# Altium schematic symbol library jlcpcb_2024_10_resistors_basic.schlib: 182 symbols (part 1 of 4)
Pins are listed as number, name and electrical type; pins without a type are passive.

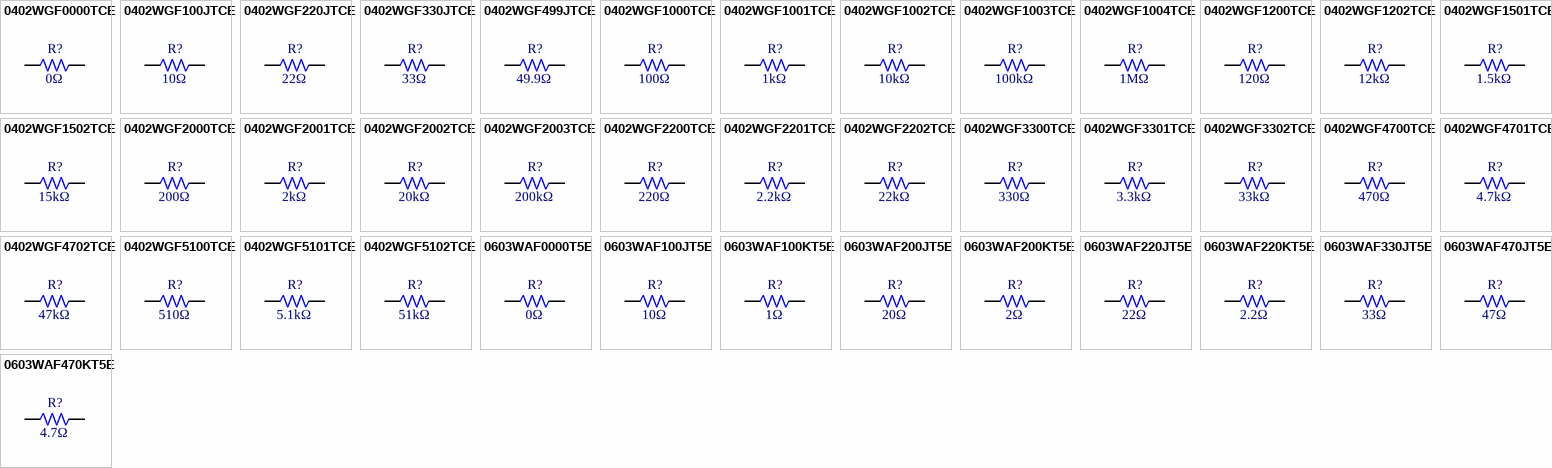
[diagram p0: symbols 0402WGF0000TCE to 0603WAF470KT5E]

## 0402WGF0000TCE
designator R?  Resistance: 0Ω  (hidden comment: *)
Resistor, 0Ω, ±1%, 62.5mW, 50V, ±800ppm/℃, -55℃~+155℃, SMD 0402; Manufacturer: Uniroyal; Manufacturer Part Number: 0402WGF0000TCE; Supplier 1: LCSC; Supplier Part Number 1: C17168; JLCPCB Part Number: C17168; Power Rating: 62.5mW; Category: Resistors; Package Size: 0402; JLCPCB Basic Part: Yes; Tolerance: ±1%; Voltage Rating: 50V; Temperature Coefficient: ±800ppm/℃; Temperature Rating: -55℃~+155℃; ComponentLink1Description: Datasheet; ComponentLink1URL: https://wmsc.lcsc.com/wmsc/upload/file/pdf/v2/lcsc/2206010216_UNI-ROYAL-Uniroyal-Elec-0402WGF0000TCE_C17168.pdf; ComponentLink2Description: JLCPCB Part URL; ComponentLink2URL: https://jlcpcb.com/partdetail/C17168
footprint RES-0402 (0402 (1005M) Resistor)
pins: 1, 2
1 alternate drawing of the same symbol

## 0402WGF100JTCE
designator R?  Resistance: 10Ω  (hidden comment: *)
Resistor, 10Ω, ±1%, 62.5mW, 50V, ±200ppm/℃, -55℃~+155℃, SMD 0402; Manufacturer: Uniroyal; Manufacturer Part Number: 0402WGF100JTCE; Supplier 1: LCSC; Supplier Part Number 1: C25077; JLCPCB Part Number: C25077; Power Rating: 62.5mW; Category: Resistors; Package Size: 0402; JLCPCB Basic Part: Yes; Tolerance: ±1%; Voltage Rating: 50V; Temperature Coefficient: ±200ppm/℃; Temperature Rating: -55℃~+155℃; ComponentLink1Description: Datasheet; ComponentLink1URL: https://wmsc.lcsc.com/wmsc/upload/file/pdf/v2/lcsc/2205311900_UNI-ROYAL-Uniroyal-Elec-0402WGF100JTCE_C25077.pdf; ComponentLink2Description: JLCPCB Part URL; ComponentLink2URL: https://jlcpcb.com/partdetail/C25077
footprint RES-0402 (0402 (1005M) Resistor)
pins: 1, 2
1 alternate drawing of the same symbol

## 0402WGF220JTCE
designator R?  Resistance: 22Ω  (hidden comment: *)
Resistor, 22Ω, ±1%, 62.5mW, 50V, ±200ppm/℃, -55℃~+155℃, SMD 0402; Manufacturer: Uniroyal; Manufacturer Part Number: 0402WGF220JTCE; Supplier 1: LCSC; Supplier Part Number 1: C25092; JLCPCB Part Number: C25092; Power Rating: 62.5mW; Category: Resistors; Package Size: 0402; JLCPCB Basic Part: Yes; Tolerance: ±1%; Voltage Rating: 50V; Temperature Coefficient: ±200ppm/℃; Temperature Rating: -55℃~+155℃; ComponentLink1Description: Datasheet; ComponentLink1URL: https://wmsc.lcsc.com/wmsc/upload/file/pdf/v2/lcsc/2205311900_UNI-ROYAL-Uniroyal-Elec-0402WGF220JTCE_C25092.pdf; ComponentLink2Description: JLCPCB Part URL; ComponentLink2URL: https://jlcpcb.com/partdetail/C25092
footprint RES-0402 (0402 (1005M) Resistor)
pins: 1, 2
1 alternate drawing of the same symbol

## 0402WGF330JTCE
designator R?  Resistance: 33Ω  (hidden comment: *)
Resistor, 33Ω, ±1%, 62.5mW, 50V, ±100ppm/℃, -55℃~+155℃, SMD 0402; Manufacturer: Uniroyal; Manufacturer Part Number: 0402WGF330JTCE; Supplier 1: LCSC; Supplier Part Number 1: C25105; JLCPCB Part Number: C25105; Power Rating: 62.5mW; Category: Resistors; Package Size: 0402; JLCPCB Basic Part: Yes; Tolerance: ±1%; Voltage Rating: 50V; Temperature Coefficient: ±100ppm/℃; Temperature Rating: -55℃~+155℃; ComponentLink1Description: Datasheet; ComponentLink1URL: https://wmsc.lcsc.com/wmsc/upload/file/pdf/v2/lcsc/2205311900_UNI-ROYAL-Uniroyal-Elec-0402WGF330JTCE_C25105.pdf; ComponentLink2Description: JLCPCB Part URL; ComponentLink2URL: https://jlcpcb.com/partdetail/C25105
footprint RES-0402 (0402 (1005M) Resistor)
pins: 1, 2
1 alternate drawing of the same symbol

## 0402WGF499JTCE
designator R?  Resistance: 49.9Ω  (hidden comment: *)
Resistor, 49.9Ω, ±1%, 62.5mW, 50V, ±100ppm/℃, -55℃~+155℃, SMD 0402; Manufacturer: Uniroyal; Manufacturer Part Number: 0402WGF499JTCE; Supplier 1: LCSC; Supplier Part Number 1: C25120; JLCPCB Part Number: C25120; Power Rating: 62.5mW; Category: Resistors; Package Size: 0402; JLCPCB Basic Part: Yes; Tolerance: ±1%; Voltage Rating: 50V; Temperature Coefficient: ±100ppm/℃; Temperature Rating: -55℃~+155℃; ComponentLink1Description: Datasheet; ComponentLink1URL: https://wmsc.lcsc.com/wmsc/upload/file/pdf/v2/lcsc/2205311900_UNI-ROYAL-Uniroyal-Elec-0402WGF499JTCE_C25120.pdf; ComponentLink2Description: JLCPCB Part URL; ComponentLink2URL: https://jlcpcb.com/partdetail/C25120
footprint RES-0402 (0402 (1005M) Resistor)
pins: 1, 2
1 alternate drawing of the same symbol

## 0402WGF1000TCE
designator R?  Resistance: 100Ω  (hidden comment: *)
Resistor, 100Ω, ±1%, 62.5mW, 50V, ±200ppm/℃, -55℃~+155℃, SMD 0402; Manufacturer: Uniroyal; Manufacturer Part Number: 0402WGF1000TCE; Supplier 1: LCSC; Supplier Part Number 1: C25076; JLCPCB Part Number: C25076; Power Rating: 62.5mW; Category: Resistors; Package Size: 0402; JLCPCB Basic Part: Yes; Tolerance: ±1%; Voltage Rating: 50V; Temperature Coefficient: ±200ppm/℃; Temperature Rating: -55℃~+155℃; ComponentLink1Description: Datasheet; ComponentLink1URL: https://wmsc.lcsc.com/wmsc/upload/file/pdf/v2/lcsc/2205311900_UNI-ROYAL-Uniroyal-Elec-0402WGF1000TCE_C25076.pdf; ComponentLink2Description: JLCPCB Part URL; ComponentLink2URL: https://jlcpcb.com/partdetail/C25076
footprint RES-0402 (0402 (1005M) Resistor)
pins: 1, 2
1 alternate drawing of the same symbol

## 0402WGF1001TCE
designator R?  Resistance: 1kΩ  (hidden comment: *)
Resistor, 1kΩ, ±1%, 62.5mW, 50V, ±100ppm/℃, -55℃~+155℃, SMD 0402; Manufacturer: Uniroyal; Manufacturer Part Number: 0402WGF1001TCE; Supplier 1: LCSC; Supplier Part Number 1: C11702; JLCPCB Part Number: C11702; Power Rating: 62.5mW; Category: Resistors; Package Size: 0402; JLCPCB Basic Part: Yes; Tolerance: ±1%; Voltage Rating: 50V; Temperature Coefficient: ±100ppm/℃; Temperature Rating: -55℃~+155℃; ComponentLink1Description: Datasheet; ComponentLink1URL: https://wmsc.lcsc.com/wmsc/upload/file/pdf/v2/lcsc/2206010216_UNI-ROYAL-Uniroyal-Elec-0402WGF1001TCE_C11702.pdf; ComponentLink2Description: JLCPCB Part URL; ComponentLink2URL: https://jlcpcb.com/partdetail/C11702
footprint RES-0402 (0402 (1005M) Resistor)
pins: 1, 2
1 alternate drawing of the same symbol

## 0402WGF1002TCE
designator R?  Resistance: 10kΩ  (hidden comment: *)
Resistor, 10kΩ, ±1%, 62.5mW, 50V, ±100ppm/℃, -55℃~+155℃, SMD 0402; Manufacturer: Uniroyal; Manufacturer Part Number: 0402WGF1002TCE; Supplier 1: LCSC; Supplier Part Number 1: C25744; JLCPCB Part Number: C25744; Power Rating: 62.5mW; Category: Resistors; Package Size: 0402; JLCPCB Basic Part: Yes; Tolerance: ±1%; Voltage Rating: 50V; Temperature Coefficient: ±100ppm/℃; Temperature Rating: -55℃~+155℃; ComponentLink1Description: Datasheet; ComponentLink1URL: https://wmsc.lcsc.com/wmsc/upload/file/pdf/v2/lcsc/2206010100_UNI-ROYAL-Uniroyal-Elec-0402WGF1002TCE_C25744.pdf; ComponentLink2Description: JLCPCB Part URL; ComponentLink2URL: https://jlcpcb.com/partdetail/C25744
footprint RES-0402 (0402 (1005M) Resistor)
pins: 1, 2
1 alternate drawing of the same symbol

## 0402WGF1003TCE
designator R?  Resistance: 100kΩ  (hidden comment: *)
Resistor, 100kΩ, ±1%, 62.5mW, 50V, ±100ppm/℃, -55℃~+155℃, SMD 0402; Manufacturer: Uniroyal; Manufacturer Part Number: 0402WGF1003TCE; Supplier 1: LCSC; Supplier Part Number 1: C25741; JLCPCB Part Number: C25741; Power Rating: 62.5mW; Category: Resistors; Package Size: 0402; JLCPCB Basic Part: Yes; Tolerance: ±1%; Voltage Rating: 50V; Temperature Coefficient: ±100ppm/℃; Temperature Rating: -55℃~+155℃; ComponentLink1Description: Datasheet; ComponentLink1URL: https://wmsc.lcsc.com/wmsc/upload/file/pdf/v2/lcsc/2206010100_UNI-ROYAL-Uniroyal-Elec-0402WGF1003TCE_C25741.pdf; ComponentLink2Description: JLCPCB Part URL; ComponentLink2URL: https://jlcpcb.com/partdetail/C25741
footprint RES-0402 (0402 (1005M) Resistor)
pins: 1, 2
1 alternate drawing of the same symbol

## 0402WGF1004TCE
designator R?  Resistance: 1MΩ  (hidden comment: *)
Resistor, 1MΩ, ±1%, 62.5mW, 50V, ±100ppm/℃, -55℃~+155℃, SMD 0402; Manufacturer: Uniroyal; Manufacturer Part Number: 0402WGF1004TCE; Supplier 1: LCSC; Supplier Part Number 1: C26083; JLCPCB Part Number: C26083; Power Rating: 62.5mW; Category: Resistors; Package Size: 0402; JLCPCB Basic Part: Yes; Tolerance: ±1%; Voltage Rating: 50V; Temperature Coefficient: ±100ppm/℃; Temperature Rating: -55℃~+155℃; ComponentLink1Description: Datasheet; ComponentLink1URL: https://wmsc.lcsc.com/wmsc/upload/file/pdf/v2/lcsc/2206010030_UNI-ROYAL-Uniroyal-Elec-0402WGF1004TCE_C26083.pdf; ComponentLink2Description: JLCPCB Part URL; ComponentLink2URL: https://jlcpcb.com/partdetail/C26083
footprint RES-0402 (0402 (1005M) Resistor)
pins: 1, 2
1 alternate drawing of the same symbol

## 0402WGF1200TCE
designator R?  Resistance: 120Ω  (hidden comment: *)
Resistor, 120Ω, ±1%, 62.5mW, 50V, ±100ppm/℃, -55℃~+155℃, SMD 0402; Manufacturer: Uniroyal; Manufacturer Part Number: 0402WGF1200TCE; Supplier 1: LCSC; Supplier Part Number 1: C25079; JLCPCB Part Number: C25079; Power Rating: 62.5mW; Category: Resistors; Package Size: 0402; JLCPCB Basic Part: Yes; Tolerance: ±1%; Voltage Rating: 50V; Temperature Coefficient: ±100ppm/℃; Temperature Rating: -55℃~+155℃; ComponentLink1Description: Datasheet; ComponentLink1URL: https://wmsc.lcsc.com/wmsc/upload/file/pdf/v2/lcsc/2205311900_UNI-ROYAL-Uniroyal-Elec-0402WGF1200TCE_C25079.pdf; ComponentLink2Description: JLCPCB Part URL; ComponentLink2URL: https://jlcpcb.com/partdetail/C25079
footprint RES-0402 (0402 (1005M) Resistor)
pins: 1, 2
1 alternate drawing of the same symbol

## 0402WGF1202TCE
designator R?  Resistance: 12kΩ  (hidden comment: *)
Resistor, 12kΩ, ±1%, 62.5mW, 50V, ±100ppm/℃, -55℃~+155℃, SMD 0402; Manufacturer: Uniroyal; Manufacturer Part Number: 0402WGF1202TCE; Supplier 1: LCSC; Supplier Part Number 1: C25752; JLCPCB Part Number: C25752; Power Rating: 62.5mW; Category: Resistors; Package Size: 0402; JLCPCB Basic Part: Yes; Tolerance: ±1%; Voltage Rating: 50V; Temperature Coefficient: ±100ppm/℃; Temperature Rating: -55℃~+155℃; ComponentLink1Description: Datasheet; ComponentLink1URL: https://wmsc.lcsc.com/wmsc/upload/file/pdf/v2/lcsc/2206010100_UNI-ROYAL-Uniroyal-Elec-0402WGF1202TCE_C25752.pdf; ComponentLink2Description: JLCPCB Part URL; ComponentLink2URL: https://jlcpcb.com/partdetail/C25752
footprint RES-0402 (0402 (1005M) Resistor)
pins: 1, 2
1 alternate drawing of the same symbol

## 0402WGF1501TCE
designator R?  Resistance: 1.5kΩ  (hidden comment: *)
Resistor, 1.5kΩ, ±1%, 62.5mW, 50V, ±100ppm/℃, -55℃~+155℃, SMD 0402; Manufacturer: Uniroyal; Manufacturer Part Number: 0402WGF1501TCE; Supplier 1: LCSC; Supplier Part Number 1: C25867; JLCPCB Part Number: C25867; Power Rating: 62.5mW; Category: Resistors; Package Size: 0402; JLCPCB Basic Part: Yes; Tolerance: ±1%; Voltage Rating: 50V; Temperature Coefficient: ±100ppm/℃; Temperature Rating: -55℃~+155℃; ComponentLink1Description: Datasheet; ComponentLink1URL: https://wmsc.lcsc.com/wmsc/upload/file/pdf/v2/lcsc/2206010045_UNI-ROYAL-Uniroyal-Elec-0402WGF1501TCE_C25867.pdf; ComponentLink2Description: JLCPCB Part URL; ComponentLink2URL: https://jlcpcb.com/partdetail/C25867
footprint RES-0402 (0402 (1005M) Resistor)
pins: 1, 2
1 alternate drawing of the same symbol

## 0402WGF1502TCE
designator R?  Resistance: 15kΩ  (hidden comment: *)
Resistor, 15kΩ, ±1%, 62.5mW, 50V, ±100ppm/℃, -55℃~+155℃, SMD 0402; Manufacturer: Uniroyal; Manufacturer Part Number: 0402WGF1502TCE; Supplier 1: LCSC; Supplier Part Number 1: C25756; JLCPCB Part Number: C25756; Power Rating: 62.5mW; Category: Resistors; Package Size: 0402; JLCPCB Basic Part: Yes; Tolerance: ±1%; Voltage Rating: 50V; Temperature Coefficient: ±100ppm/℃; Temperature Rating: -55℃~+155℃; ComponentLink1Description: Datasheet; ComponentLink1URL: https://wmsc.lcsc.com/wmsc/upload/file/pdf/v2/lcsc/2206010100_UNI-ROYAL-Uniroyal-Elec-0402WGF1502TCE_C25756.pdf; ComponentLink2Description: JLCPCB Part URL; ComponentLink2URL: https://jlcpcb.com/partdetail/C25756
footprint RES-0402 (0402 (1005M) Resistor)
pins: 1, 2
1 alternate drawing of the same symbol

## 0402WGF2000TCE
designator R?  Resistance: 200Ω  (hidden comment: *)
Resistor, 200Ω, ±1%, 62.5mW, 50V, ±100ppm/℃, -55℃~+155℃, SMD 0402; Manufacturer: Uniroyal; Manufacturer Part Number: 0402WGF2000TCE; Supplier 1: LCSC; Supplier Part Number 1: C25087; JLCPCB Part Number: C25087; Power Rating: 62.5mW; Category: Resistors; Package Size: 0402; JLCPCB Basic Part: Yes; Tolerance: ±1%; Voltage Rating: 50V; Temperature Coefficient: ±100ppm/℃; Temperature Rating: -55℃~+155℃; ComponentLink1Description: Datasheet; ComponentLink1URL: https://wmsc.lcsc.com/wmsc/upload/file/pdf/v2/lcsc/2205311900_UNI-ROYAL-Uniroyal-Elec-0402WGF2000TCE_C25087.pdf; ComponentLink2Description: JLCPCB Part URL; ComponentLink2URL: https://jlcpcb.com/partdetail/C25087
footprint RES-0402 (0402 (1005M) Resistor)
pins: 1, 2
1 alternate drawing of the same symbol

## 0402WGF2001TCE
designator R?  Resistance: 2kΩ  (hidden comment: *)
Resistor, 2kΩ, ±1%, 62.5mW, 50V, ±100ppm/℃, -55℃~+155℃, SMD 0402; Manufacturer: Uniroyal; Manufacturer Part Number: 0402WGF2001TCE; Supplier 1: LCSC; Supplier Part Number 1: C4109; JLCPCB Part Number: C4109; Power Rating: 62.5mW; Category: Resistors; Package Size: 0402; JLCPCB Basic Part: Yes; Tolerance: ±1%; Voltage Rating: 50V; Temperature Coefficient: ±100ppm/℃; Temperature Rating: -55℃~+155℃; ComponentLink1Description: Datasheet; ComponentLink1URL: https://wmsc.lcsc.com/wmsc/upload/file/pdf/v2/lcsc/2206010230_UNI-ROYAL-Uniroyal-Elec-0402WGF2001TCE_C4109.pdf; ComponentLink2Description: JLCPCB Part URL; ComponentLink2URL: https://jlcpcb.com/partdetail/C4109
footprint RES-0402 (0402 (1005M) Resistor)
pins: 1, 2
1 alternate drawing of the same symbol

## 0402WGF2002TCE
designator R?  Resistance: 20kΩ  (hidden comment: *)
Resistor, 20kΩ, ±1%, 62.5mW, 50V, ±100ppm/℃, -55℃~+155℃, SMD 0402; Manufacturer: Uniroyal; Manufacturer Part Number: 0402WGF2002TCE; Supplier 1: LCSC; Supplier Part Number 1: C25765; JLCPCB Part Number: C25765; Power Rating: 62.5mW; Category: Resistors; Package Size: 0402; JLCPCB Basic Part: Yes; Tolerance: ±1%; Voltage Rating: 50V; Temperature Coefficient: ±100ppm/℃; Temperature Rating: -55℃~+155℃; ComponentLink1Description: Datasheet; ComponentLink1URL: https://wmsc.lcsc.com/wmsc/upload/file/pdf/v2/lcsc/2206010100_UNI-ROYAL-Uniroyal-Elec-0402WGF2002TCE_C25765.pdf; ComponentLink2Description: JLCPCB Part URL; ComponentLink2URL: https://jlcpcb.com/partdetail/C25765
footprint RES-0402 (0402 (1005M) Resistor)
pins: 1, 2
1 alternate drawing of the same symbol

## 0402WGF2003TCE
designator R?  Resistance: 200kΩ  (hidden comment: *)
Resistor, 200kΩ, ±1%, 62.5mW, 50V, ±100ppm/℃, -55℃~+155℃, SMD 0402; Manufacturer: Uniroyal; Manufacturer Part Number: 0402WGF2003TCE; Supplier 1: LCSC; Supplier Part Number 1: C25764; JLCPCB Part Number: C25764; Power Rating: 62.5mW; Category: Resistors; Package Size: 0402; JLCPCB Basic Part: Yes; Tolerance: ±1%; Voltage Rating: 50V; Temperature Coefficient: ±100ppm/℃; Temperature Rating: -55℃~+155℃; ComponentLink1Description: Datasheet; ComponentLink1URL: https://wmsc.lcsc.com/wmsc/upload/file/pdf/v2/lcsc/2206010100_UNI-ROYAL-Uniroyal-Elec-0402WGF2003TCE_C25764.pdf; ComponentLink2Description: JLCPCB Part URL; ComponentLink2URL: https://jlcpcb.com/partdetail/C25764
footprint RES-0402 (0402 (1005M) Resistor)
pins: 1, 2
1 alternate drawing of the same symbol

## 0402WGF2200TCE
designator R?  Resistance: 220Ω  (hidden comment: *)
Resistor, 220Ω, ±1%, 62.5mW, 50V, ±100ppm/℃, -55℃~+155℃, SMD 0402; Manufacturer: Uniroyal; Manufacturer Part Number: 0402WGF2200TCE; Supplier 1: LCSC; Supplier Part Number 1: C25091; JLCPCB Part Number: C25091; Power Rating: 62.5mW; Category: Resistors; Package Size: 0402; JLCPCB Basic Part: Yes; Tolerance: ±1%; Voltage Rating: 50V; Temperature Coefficient: ±100ppm/℃; Temperature Rating: -55℃~+155℃; ComponentLink1Description: Datasheet; ComponentLink1URL: https://wmsc.lcsc.com/wmsc/upload/file/pdf/v2/lcsc/2205311900_UNI-ROYAL-Uniroyal-Elec-0402WGF2200TCE_C25091.pdf; ComponentLink2Description: JLCPCB Part URL; ComponentLink2URL: https://jlcpcb.com/partdetail/C25091
footprint RES-0402 (0402 (1005M) Resistor)
pins: 1, 2
1 alternate drawing of the same symbol

## 0402WGF2201TCE
designator R?  Resistance: 2.2kΩ  (hidden comment: *)
Resistor, 2.2kΩ, ±1%, 62.5mW, 50V, ±100ppm/℃, -55℃~+155℃, SMD 0402; Manufacturer: Uniroyal; Manufacturer Part Number: 0402WGF2201TCE; Supplier 1: LCSC; Supplier Part Number 1: C25879; JLCPCB Part Number: C25879; Power Rating: 62.5mW; Category: Resistors; Package Size: 0402; JLCPCB Basic Part: Yes; Tolerance: ±1%; Voltage Rating: 50V; Temperature Coefficient: ±100ppm/℃; Temperature Rating: -55℃~+155℃; ComponentLink1Description: Datasheet; ComponentLink1URL: https://wmsc.lcsc.com/wmsc/upload/file/pdf/v2/lcsc/2206010045_UNI-ROYAL-Uniroyal-Elec-0402WGF2201TCE_C25879.pdf; ComponentLink2Description: JLCPCB Part URL; ComponentLink2URL: https://jlcpcb.com/partdetail/C25879
footprint RES-0402 (0402 (1005M) Resistor)
pins: 1, 2
1 alternate drawing of the same symbol

## 0402WGF2202TCE
designator R?  Resistance: 22kΩ  (hidden comment: *)
Resistor, 22kΩ, ±1%, 62.5mW, 50V, ±100ppm/℃, -55℃~+155℃, SMD 0402; Manufacturer: Uniroyal; Manufacturer Part Number: 0402WGF2202TCE; Supplier 1: LCSC; Supplier Part Number 1: C25768; JLCPCB Part Number: C25768; Power Rating: 62.5mW; Category: Resistors; Package Size: 0402; JLCPCB Basic Part: Yes; Tolerance: ±1%; Voltage Rating: 50V; Temperature Coefficient: ±100ppm/℃; Temperature Rating: -55℃~+155℃; ComponentLink1Description: Datasheet; ComponentLink1URL: https://wmsc.lcsc.com/wmsc/upload/file/pdf/v2/lcsc/2206010100_UNI-ROYAL-Uniroyal-Elec-0402WGF2202TCE_C25768.pdf; ComponentLink2Description: JLCPCB Part URL; ComponentLink2URL: https://jlcpcb.com/partdetail/C25768
footprint RES-0402 (0402 (1005M) Resistor)
pins: 1, 2
1 alternate drawing of the same symbol

## 0402WGF3300TCE
designator R?  Resistance: 330Ω  (hidden comment: *)
Resistor, 330Ω, ±1%, 62.5mW, 50V, ±100ppm/℃, -55℃~+155℃, SMD 0402; Manufacturer: Uniroyal; Manufacturer Part Number: 0402WGF3300TCE; Supplier 1: LCSC; Supplier Part Number 1: C25104; JLCPCB Part Number: C25104; Power Rating: 62.5mW; Category: Resistors; Package Size: 0402; JLCPCB Basic Part: Yes; Tolerance: ±1%; Voltage Rating: 50V; Temperature Coefficient: ±100ppm/℃; Temperature Rating: -55℃~+155℃; ComponentLink1Description: Datasheet; ComponentLink1URL: https://wmsc.lcsc.com/wmsc/upload/file/pdf/v2/lcsc/2205311900_UNI-ROYAL-Uniroyal-Elec-0402WGF3300TCE_C25104.pdf; ComponentLink2Description: JLCPCB Part URL; ComponentLink2URL: https://jlcpcb.com/partdetail/C25104
footprint RES-0402 (0402 (1005M) Resistor)
pins: 1, 2
1 alternate drawing of the same symbol

## 0402WGF3301TCE
designator R?  Resistance: 3.3kΩ  (hidden comment: *)
Resistor, 3.3kΩ, ±1%, 62.5mW, 50V, ±100ppm/℃, -55℃~+155℃, SMD 0402; Manufacturer: Uniroyal; Manufacturer Part Number: 0402WGF3301TCE; Supplier 1: LCSC; Supplier Part Number 1: C25890; JLCPCB Part Number: C25890; Power Rating: 62.5mW; Category: Resistors; Package Size: 0402; JLCPCB Basic Part: Yes; Tolerance: ±1%; Voltage Rating: 50V; Temperature Coefficient: ±100ppm/℃; Temperature Rating: -55℃~+155℃; ComponentLink1Description: Datasheet; ComponentLink1URL: https://wmsc.lcsc.com/wmsc/upload/file/pdf/v2/lcsc/2206010045_UNI-ROYAL-Uniroyal-Elec-0402WGF3301TCE_C25890.pdf; ComponentLink2Description: JLCPCB Part URL; ComponentLink2URL: https://jlcpcb.com/partdetail/C25890
footprint RES-0402 (0402 (1005M) Resistor)
pins: 1, 2
1 alternate drawing of the same symbol

## 0402WGF3302TCE
designator R?  Resistance: 33kΩ  (hidden comment: *)
Resistor, 33kΩ, ±1%, 62.5mW, 50V, ±100ppm/℃, -55℃~+155℃, SMD 0402; Manufacturer: Uniroyal; Manufacturer Part Number: 0402WGF3302TCE; Supplier 1: LCSC; Supplier Part Number 1: C25779; JLCPCB Part Number: C25779; Power Rating: 62.5mW; Category: Resistors; Package Size: 0402; JLCPCB Basic Part: Yes; Tolerance: ±1%; Voltage Rating: 50V; Temperature Coefficient: ±100ppm/℃; Temperature Rating: -55℃~+155℃; ComponentLink1Description: Datasheet; ComponentLink1URL: https://wmsc.lcsc.com/wmsc/upload/file/pdf/v2/lcsc/2206010100_UNI-ROYAL-Uniroyal-Elec-0402WGF3302TCE_C25779.pdf; ComponentLink2Description: JLCPCB Part URL; ComponentLink2URL: https://jlcpcb.com/partdetail/C25779
footprint RES-0402 (0402 (1005M) Resistor)
pins: 1, 2
1 alternate drawing of the same symbol

## 0402WGF4700TCE
designator R?  Resistance: 470Ω  (hidden comment: *)
Resistor, 470Ω, ±1%, 62.5mW, 50V, ±100ppm/℃, -55℃~+155℃, SMD 0402; Manufacturer: Uniroyal; Manufacturer Part Number: 0402WGF4700TCE; Supplier 1: LCSC; Supplier Part Number 1: C25117; JLCPCB Part Number: C25117; Power Rating: 62.5mW; Category: Resistors; Package Size: 0402; JLCPCB Basic Part: Yes; Tolerance: ±1%; Voltage Rating: 50V; Temperature Coefficient: ±100ppm/℃; Temperature Rating: -55℃~+155℃; ComponentLink1Description: Datasheet; ComponentLink1URL: https://wmsc.lcsc.com/wmsc/upload/file/pdf/v2/lcsc/2205311900_UNI-ROYAL-Uniroyal-Elec-0402WGF4700TCE_C25117.pdf; ComponentLink2Description: JLCPCB Part URL; ComponentLink2URL: https://jlcpcb.com/partdetail/C25117
footprint RES-0402 (0402 (1005M) Resistor)
pins: 1, 2
1 alternate drawing of the same symbol

## 0402WGF4701TCE
designator R?  Resistance: 4.7kΩ  (hidden comment: *)
Resistor, 4.7kΩ, ±1%, 62.5mW, 50V, ±100ppm/℃, -55℃~+155℃, SMD 0402; Manufacturer: Uniroyal; Manufacturer Part Number: 0402WGF4701TCE; Supplier 1: LCSC; Supplier Part Number 1: C25900; JLCPCB Part Number: C25900; Power Rating: 62.5mW; Category: Resistors; Package Size: 0402; JLCPCB Basic Part: Yes; Tolerance: ±1%; Voltage Rating: 50V; Temperature Coefficient: ±100ppm/℃; Temperature Rating: -55℃~+155℃; ComponentLink1Description: Datasheet; ComponentLink1URL: https://wmsc.lcsc.com/wmsc/upload/file/pdf/v2/lcsc/2206010045_UNI-ROYAL-Uniroyal-Elec-0402WGF4701TCE_C25900.pdf; ComponentLink2Description: JLCPCB Part URL; ComponentLink2URL: https://jlcpcb.com/partdetail/C25900
footprint RES-0402 (0402 (1005M) Resistor)
pins: 1, 2
1 alternate drawing of the same symbol

## 0402WGF4702TCE
designator R?  Resistance: 47kΩ  (hidden comment: *)
Resistor, 47kΩ, ±1%, 62.5mW, 50V, ±100ppm/℃, -55℃~+155℃, SMD 0402; Manufacturer: Uniroyal; Manufacturer Part Number: 0402WGF4702TCE; Supplier 1: LCSC; Supplier Part Number 1: C25792; JLCPCB Part Number: C25792; Power Rating: 62.5mW; Category: Resistors; Package Size: 0402; JLCPCB Basic Part: Yes; Tolerance: ±1%; Voltage Rating: 50V; Temperature Coefficient: ±100ppm/℃; Temperature Rating: -55℃~+155℃; ComponentLink1Description: Datasheet; ComponentLink1URL: https://wmsc.lcsc.com/wmsc/upload/file/pdf/v2/lcsc/2206010100_UNI-ROYAL-Uniroyal-Elec-0402WGF4702TCE_C25792.pdf; ComponentLink2Description: JLCPCB Part URL; ComponentLink2URL: https://jlcpcb.com/partdetail/C25792
footprint RES-0402 (0402 (1005M) Resistor)
pins: 1, 2
1 alternate drawing of the same symbol

## 0402WGF5100TCE
designator R?  Resistance: 510Ω  (hidden comment: *)
Resistor, 510Ω, ±1%, 62.5mW, 50V, ±100ppm/℃, -55℃~+155℃, SMD 0402; Manufacturer: Uniroyal; Manufacturer Part Number: 0402WGF5100TCE; Supplier 1: LCSC; Supplier Part Number 1: C25123; JLCPCB Part Number: C25123; Power Rating: 62.5mW; Category: Resistors; Package Size: 0402; JLCPCB Basic Part: Yes; Tolerance: ±1%; Voltage Rating: 50V; Temperature Coefficient: ±100ppm/℃; Temperature Rating: -55℃~+155℃; ComponentLink1Description: Datasheet; ComponentLink1URL: https://wmsc.lcsc.com/wmsc/upload/file/pdf/v2/lcsc/2205311900_UNI-ROYAL-Uniroyal-Elec-0402WGF5100TCE_C25123.pdf; ComponentLink2Description: JLCPCB Part URL; ComponentLink2URL: https://jlcpcb.com/partdetail/C25123
footprint RES-0402 (0402 (1005M) Resistor)
pins: 1, 2
1 alternate drawing of the same symbol

## 0402WGF5101TCE
designator R?  Resistance: 5.1kΩ  (hidden comment: *)
Resistor, 5.1kΩ, ±1%, 62.5mW, 50V, ±100ppm/℃, -55℃~+155℃, SMD 0402; Manufacturer: Uniroyal; Manufacturer Part Number: 0402WGF5101TCE; Supplier 1: LCSC; Supplier Part Number 1: C25905; JLCPCB Part Number: C25905; Power Rating: 62.5mW; Category: Resistors; Package Size: 0402; JLCPCB Basic Part: Yes; Tolerance: ±1%; Voltage Rating: 50V; Temperature Coefficient: ±100ppm/℃; Temperature Rating: -55℃~+155℃; ComponentLink1Description: Datasheet; ComponentLink1URL: https://wmsc.lcsc.com/wmsc/upload/file/pdf/v2/lcsc/2206010045_UNI-ROYAL-Uniroyal-Elec-0402WGF5101TCE_C25905.pdf; ComponentLink2Description: JLCPCB Part URL; ComponentLink2URL: https://jlcpcb.com/partdetail/C25905
footprint RES-0402 (0402 (1005M) Resistor)
pins: 1, 2
1 alternate drawing of the same symbol

## 0402WGF5102TCE
designator R?  Resistance: 51kΩ  (hidden comment: *)
Resistor, 51kΩ, ±1%, 62.5mW, 50V, ±100ppm/℃, -55℃~+155℃, SMD 0402; Manufacturer: Uniroyal; Manufacturer Part Number: 0402WGF5102TCE; Supplier 1: LCSC; Supplier Part Number 1: C25794; JLCPCB Part Number: C25794; Power Rating: 62.5mW; Category: Resistors; Package Size: 0402; JLCPCB Basic Part: Yes; Tolerance: ±1%; Voltage Rating: 50V; Temperature Coefficient: ±100ppm/℃; Temperature Rating: -55℃~+155℃; ComponentLink1Description: Datasheet; ComponentLink1URL: https://wmsc.lcsc.com/wmsc/upload/file/pdf/v2/lcsc/2206010100_UNI-ROYAL-Uniroyal-Elec-0402WGF5102TCE_C25794.pdf; ComponentLink2Description: JLCPCB Part URL; ComponentLink2URL: https://jlcpcb.com/partdetail/C25794
footprint RES-0402 (0402 (1005M) Resistor)
pins: 1, 2
1 alternate drawing of the same symbol

## 0603WAF0000T5E
designator R?  Resistance: 0Ω  (hidden comment: *)
Resistor, 0Ω, ±1%, 100mW, 75V, -55℃~+155℃, SMD 0603; Manufacturer: Uniroyal; Manufacturer Part Number: 0603WAF0000T5E; Supplier 1: LCSC; Supplier Part Number 1: C21189; JLCPCB Part Number: C21189; Power Rating: 100mW; Category: Resistors; Package Size: 0603; JLCPCB Basic Part: Yes; Tolerance: ±1%; Voltage Rating: 75V; Temperature Rating: -55℃~+155℃; ComponentLink1Description: Datasheet; ComponentLink1URL: https://wmsc.lcsc.com/wmsc/upload/file/pdf/v2/lcsc/2206010130_UNI-ROYAL-Uniroyal-Elec-0603WAF0000T5E_C21189.pdf; ComponentLink2Description: JLCPCB Part URL; ComponentLink2URL: https://jlcpcb.com/partdetail/C21189
footprint RES-0603 (0603 (1608M) Resistor)
pins: 1, 2
1 alternate drawing of the same symbol

## 0603WAF100JT5E
designator R?  Resistance: 10Ω  (hidden comment: *)
Resistor, 10Ω, ±1%, 100mW, 75V, ±400ppm/℃, -55℃~+155℃, SMD 0603; Manufacturer: Uniroyal; Manufacturer Part Number: 0603WAF100JT5E; Supplier 1: LCSC; Supplier Part Number 1: C22859; JLCPCB Part Number: C22859; Power Rating: 100mW; Category: Resistors; Package Size: 0603; JLCPCB Basic Part: Yes; Tolerance: ±1%; Voltage Rating: 75V; Temperature Coefficient: ±400ppm/℃; Temperature Rating: -55℃~+155℃; ComponentLink1Description: Datasheet; ComponentLink1URL: https://wmsc.lcsc.com/wmsc/upload/file/pdf/v2/lcsc/2206010130_UNI-ROYAL-Uniroyal-Elec-0603WAF100JT5E_C22859.pdf; ComponentLink2Description: JLCPCB Part URL; ComponentLink2URL: https://jlcpcb.com/partdetail/C22859
footprint RES-0603 (0603 (1608M) Resistor)
pins: 1, 2
1 alternate drawing of the same symbol

## 0603WAF100KT5E
designator R?  Resistance: 1Ω  (hidden comment: *)
Resistor, 1Ω, ±1%, 100mW, 75V, ±400ppm/℃, -55℃~+155℃, SMD 0603; Manufacturer: Uniroyal; Manufacturer Part Number: 0603WAF100KT5E; Supplier 1: LCSC; Supplier Part Number 1: C22936; JLCPCB Part Number: C22936; Power Rating: 100mW; Category: Resistors; Package Size: 0603; JLCPCB Basic Part: Yes; Tolerance: ±1%; Voltage Rating: 75V; Temperature Coefficient: ±400ppm/℃; Temperature Rating: -55℃~+155℃; ComponentLink1Description: Datasheet; ComponentLink1URL: https://wmsc.lcsc.com/wmsc/upload/file/pdf/v2/lcsc/2206010130_UNI-ROYAL-Uniroyal-Elec-0603WAF100KT5E_C22936.pdf; ComponentLink2Description: JLCPCB Part URL; ComponentLink2URL: https://jlcpcb.com/partdetail/C22936
footprint RES-0603 (0603 (1608M) Resistor)
pins: 1, 2
1 alternate drawing of the same symbol

## 0603WAF200JT5E
designator R?  Resistance: 20Ω  (hidden comment: *)
Resistor, 20Ω, ±1%, 100mW, 75V, ±100ppm/℃, -55℃~+155℃, SMD 0603; Manufacturer: Uniroyal; Manufacturer Part Number: 0603WAF200JT5E; Supplier 1: LCSC; Supplier Part Number 1: C22950; JLCPCB Part Number: C22950; Power Rating: 100mW; Category: Resistors; Package Size: 0603; JLCPCB Basic Part: Yes; Tolerance: ±1%; Voltage Rating: 75V; Temperature Coefficient: ±100ppm/℃; Temperature Rating: -55℃~+155℃; ComponentLink1Description: Datasheet; ComponentLink1URL: https://wmsc.lcsc.com/wmsc/upload/file/pdf/v2/lcsc/2206010130_UNI-ROYAL-Uniroyal-Elec-0603WAF200JT5E_C22950.pdf; ComponentLink2Description: JLCPCB Part URL; ComponentLink2URL: https://jlcpcb.com/partdetail/C22950
footprint RES-0603 (0603 (1608M) Resistor)
pins: 1, 2
1 alternate drawing of the same symbol

## 0603WAF200KT5E
designator R?  Resistance: 2Ω  (hidden comment: *)
Resistor, 2Ω, ±1%, 100mW, 75V, ±400ppm/℃, -55℃~+155℃, SMD 0603; Manufacturer: Uniroyal; Manufacturer Part Number: 0603WAF200KT5E; Supplier 1: LCSC; Supplier Part Number 1: C22977; JLCPCB Part Number: C22977; Power Rating: 100mW; Category: Resistors; Package Size: 0603; JLCPCB Basic Part: Yes; Tolerance: ±1%; Voltage Rating: 75V; Temperature Coefficient: ±400ppm/℃; Temperature Rating: -55℃~+155℃; ComponentLink1Description: Datasheet; ComponentLink1URL: https://wmsc.lcsc.com/wmsc/upload/file/pdf/v2/lcsc/2206010116_UNI-ROYAL-Uniroyal-Elec-0603WAF200KT5E_C22977.pdf; ComponentLink2Description: JLCPCB Part URL; ComponentLink2URL: https://jlcpcb.com/partdetail/C22977
footprint RES-0603 (0603 (1608M) Resistor)
pins: 1, 2
1 alternate drawing of the same symbol

## 0603WAF220JT5E
designator R?  Resistance: 22Ω  (hidden comment: *)
Resistor, 22Ω, ±1%, 100mW, 75V, ±100ppm/℃, -55℃~+155℃, SMD 0603; Manufacturer: Uniroyal; Manufacturer Part Number: 0603WAF220JT5E; Supplier 1: LCSC; Supplier Part Number 1: C23345; JLCPCB Part Number: C23345; Power Rating: 100mW; Category: Resistors; Package Size: 0603; JLCPCB Basic Part: Yes; Tolerance: ±1%; Voltage Rating: 75V; Temperature Coefficient: ±100ppm/℃; Temperature Rating: -55℃~+155℃; ComponentLink1Description: Datasheet; ComponentLink1URL: https://wmsc.lcsc.com/wmsc/upload/file/pdf/v2/lcsc/2206010100_UNI-ROYAL-Uniroyal-Elec-0603WAF220JT5E_C23345.pdf; ComponentLink2Description: JLCPCB Part URL; ComponentLink2URL: https://jlcpcb.com/partdetail/C23345
footprint RES-0603 (0603 (1608M) Resistor)
pins: 1, 2
1 alternate drawing of the same symbol

## 0603WAF220KT5E
designator R?  Resistance: 2.2Ω  (hidden comment: *)
Resistor, 2.2Ω, ±1%, 100mW, 75V, ±400ppm/℃, -55℃~+155℃, SMD 0603; Manufacturer: Uniroyal; Manufacturer Part Number: 0603WAF220KT5E; Supplier 1: LCSC; Supplier Part Number 1: C22939; JLCPCB Part Number: C22939; Power Rating: 100mW; Category: Resistors; Package Size: 0603; JLCPCB Basic Part: Yes; Tolerance: ±1%; Voltage Rating: 75V; Temperature Coefficient: ±400ppm/℃; Temperature Rating: -55℃~+155℃; ComponentLink1Description: Datasheet; ComponentLink1URL: https://wmsc.lcsc.com/wmsc/upload/file/pdf/v2/lcsc/2206010130_UNI-ROYAL-Uniroyal-Elec-0603WAF220KT5E_C22939.pdf; ComponentLink2Description: JLCPCB Part URL; ComponentLink2URL: https://jlcpcb.com/partdetail/C22939
footprint RES-0603 (0603 (1608M) Resistor)
pins: 1, 2
1 alternate drawing of the same symbol

## 0603WAF330JT5E
designator R?  Resistance: 33Ω  (hidden comment: *)
Resistor, 33Ω, ±1%, 100mW, 75V, ±100ppm/℃, -55℃~+155℃, SMD 0603; Manufacturer: Uniroyal; Manufacturer Part Number: 0603WAF330JT5E; Supplier 1: LCSC; Supplier Part Number 1: C23140; JLCPCB Part Number: C23140; Power Rating: 100mW; Category: Resistors; Package Size: 0603; JLCPCB Basic Part: Yes; Tolerance: ±1%; Voltage Rating: 75V; Temperature Coefficient: ±100ppm/℃; Temperature Rating: -55℃~+155℃; ComponentLink1Description: Datasheet; ComponentLink1URL: https://wmsc.lcsc.com/wmsc/upload/file/pdf/v2/lcsc/2206010116_UNI-ROYAL-Uniroyal-Elec-0603WAF330JT5E_C23140.pdf; ComponentLink2Description: JLCPCB Part URL; ComponentLink2URL: https://jlcpcb.com/partdetail/C23140
footprint RES-0603 (0603 (1608M) Resistor)
pins: 1, 2
1 alternate drawing of the same symbol

## 0603WAF470JT5E
designator R?  Resistance: 47Ω  (hidden comment: *)
Resistor, 47Ω, ±1%, 100mW, 75V, ±100ppm/℃, -55℃~+155℃, SMD 0603; Manufacturer: Uniroyal; Manufacturer Part Number: 0603WAF470JT5E; Supplier 1: LCSC; Supplier Part Number 1: C23182; JLCPCB Part Number: C23182; Power Rating: 100mW; Category: Resistors; Package Size: 0603; JLCPCB Basic Part: Yes; Tolerance: ±1%; Voltage Rating: 75V; Temperature Coefficient: ±100ppm/℃; Temperature Rating: -55℃~+155℃; ComponentLink1Description: Datasheet; ComponentLink1URL: https://wmsc.lcsc.com/wmsc/upload/file/pdf/v2/lcsc/2206010116_UNI-ROYAL-Uniroyal-Elec-0603WAF470JT5E_C23182.pdf; ComponentLink2Description: JLCPCB Part URL; ComponentLink2URL: https://jlcpcb.com/partdetail/C23182
footprint RES-0603 (0603 (1608M) Resistor)
pins: 1, 2
1 alternate drawing of the same symbol

## 0603WAF470KT5E
designator R?  Resistance: 4.7Ω  (hidden comment: *)
Resistor, 4.7Ω, ±1%, 100mW, 75V, ±400ppm/℃, -55℃~+155℃, SMD 0603; Manufacturer: Uniroyal; Manufacturer Part Number: 0603WAF470KT5E; Supplier 1: LCSC; Supplier Part Number 1: C23164; JLCPCB Part Number: C23164; Power Rating: 100mW; Category: Resistors; Package Size: 0603; JLCPCB Basic Part: Yes; Tolerance: ±1%; Voltage Rating: 75V; Temperature Coefficient: ±400ppm/℃; Temperature Rating: -55℃~+155℃; ComponentLink1Description: Datasheet; ComponentLink1URL: https://wmsc.lcsc.com/wmsc/upload/file/pdf/v2/lcsc/2206010116_UNI-ROYAL-Uniroyal-Elec-0603WAF470KT5E_C23164.pdf; ComponentLink2Description: JLCPCB Part URL; ComponentLink2URL: https://jlcpcb.com/partdetail/C23164
footprint RES-0603 (0603 (1608M) Resistor)
pins: 1, 2
1 alternate drawing of the same symbol

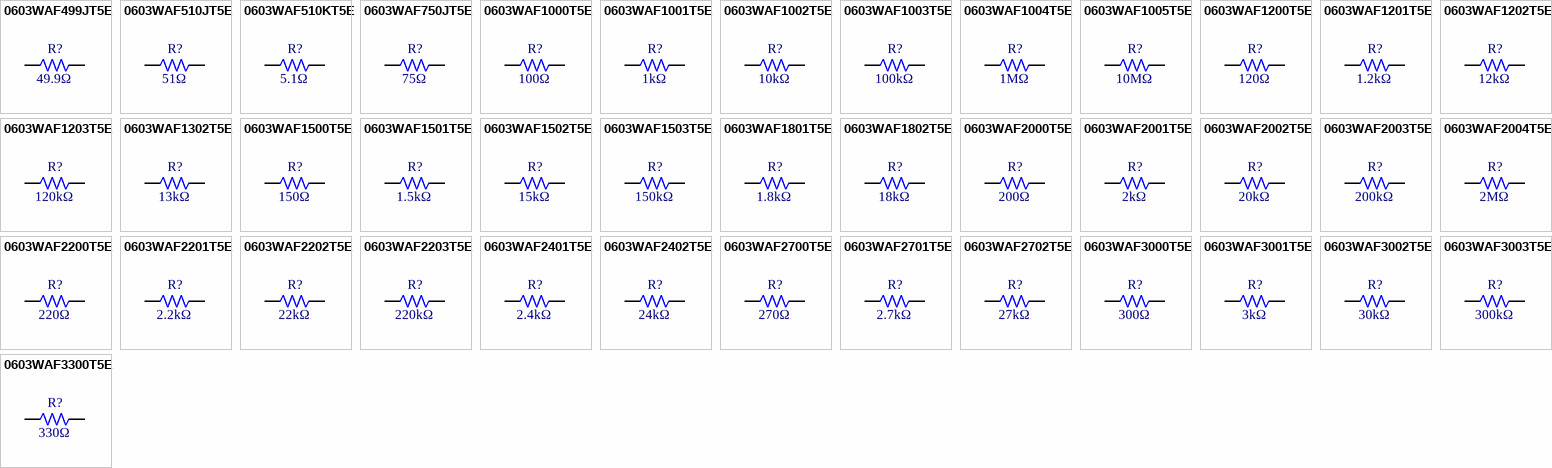
[diagram p1: symbols 0603WAF499JT5E to 0603WAF3300T5E]

## 0603WAF499JT5E
designator R?  Resistance: 49.9Ω  (hidden comment: *)
Resistor, 49.9Ω, ±1%, 100mW, 75V, ±100ppm/℃, -55℃~+155℃, SMD 0603; Manufacturer: Uniroyal; Manufacturer Part Number: 0603WAF499JT5E; Supplier 1: LCSC; Supplier Part Number 1: C23185; JLCPCB Part Number: C23185; Power Rating: 100mW; Category: Resistors; Package Size: 0603; JLCPCB Basic Part: Yes; Tolerance: ±1%; Voltage Rating: 75V; Temperature Coefficient: ±100ppm/℃; Temperature Rating: -55℃~+155℃; ComponentLink1Description: Datasheet; ComponentLink1URL: https://wmsc.lcsc.com/wmsc/upload/file/pdf/v2/lcsc/2206010116_UNI-ROYAL-Uniroyal-Elec-0603WAF499JT5E_C23185.pdf; ComponentLink2Description: JLCPCB Part URL; ComponentLink2URL: https://jlcpcb.com/partdetail/C23185
footprint RES-0603 (0603 (1608M) Resistor)
pins: 1, 2
1 alternate drawing of the same symbol

## 0603WAF510JT5E
designator R?  Resistance: 51Ω  (hidden comment: *)
Resistor, 51Ω, ±1%, 100mW, 75V, ±100ppm/℃, -55℃~+155℃, SMD 0603; Manufacturer: Uniroyal; Manufacturer Part Number: 0603WAF510JT5E; Supplier 1: LCSC; Supplier Part Number 1: C23197; JLCPCB Part Number: C23197; Power Rating: 100mW; Category: Resistors; Package Size: 0603; JLCPCB Basic Part: Yes; Tolerance: ±1%; Voltage Rating: 75V; Temperature Coefficient: ±100ppm/℃; Temperature Rating: -55℃~+155℃; ComponentLink1Description: Datasheet; ComponentLink1URL: https://wmsc.lcsc.com/wmsc/upload/file/pdf/v2/lcsc/2206010116_UNI-ROYAL-Uniroyal-Elec-0603WAF510JT5E_C23197.pdf; ComponentLink2Description: JLCPCB Part URL; ComponentLink2URL: https://jlcpcb.com/partdetail/C23197
footprint RES-0603 (0603 (1608M) Resistor)
pins: 1, 2
1 alternate drawing of the same symbol

## 0603WAF510KT5E
designator R?  Resistance: 5.1Ω  (hidden comment: *)
Resistor, 5.1Ω, ±1%, 100mW, 75V, ±200ppm/℃, -55℃~+155℃, SMD 0603; Manufacturer: Uniroyal; Manufacturer Part Number: 0603WAF510KT5E; Supplier 1: LCSC; Supplier Part Number 1: C25197; JLCPCB Part Number: C25197; Power Rating: 100mW; Category: Resistors; Package Size: 0603; JLCPCB Basic Part: Yes; Tolerance: ±1%; Voltage Rating: 75V; Temperature Coefficient: ±200ppm/℃; Temperature Rating: -55℃~+155℃; ComponentLink1Description: Datasheet; ComponentLink1URL: https://wmsc.lcsc.com/wmsc/upload/file/pdf/v2/lcsc/2205311845_UNI-ROYAL-Uniroyal-Elec-0603WAF510KT5E_C25197.pdf; ComponentLink2Description: JLCPCB Part URL; ComponentLink2URL: https://jlcpcb.com/partdetail/C25197
footprint RES-0603 (0603 (1608M) Resistor)
pins: 1, 2
1 alternate drawing of the same symbol

## 0603WAF750JT5E
designator R?  Resistance: 75Ω  (hidden comment: *)
Resistor, 75Ω, ±1%, 100mW, 75V, ±200ppm/℃, -55℃~+155℃, SMD 0603; Manufacturer: Uniroyal; Manufacturer Part Number: 0603WAF750JT5E; Supplier 1: LCSC; Supplier Part Number 1: C4275; JLCPCB Part Number: C4275; Power Rating: 100mW; Category: Resistors; Package Size: 0603; JLCPCB Basic Part: Yes; Tolerance: ±1%; Voltage Rating: 75V; Temperature Coefficient: ±200ppm/℃; Temperature Rating: -55℃~+155℃; ComponentLink1Description: Datasheet; ComponentLink1URL: https://wmsc.lcsc.com/wmsc/upload/file/pdf/v2/lcsc/2206010216_UNI-ROYAL-Uniroyal-Elec-0603WAF750JT5E_C4275.pdf; ComponentLink2Description: JLCPCB Part URL; ComponentLink2URL: https://jlcpcb.com/partdetail/C4275
footprint RES-0603 (0603 (1608M) Resistor)
pins: 1, 2
1 alternate drawing of the same symbol

## 0603WAF1000T5E
designator R?  Resistance: 100Ω  (hidden comment: *)
Resistor, 100Ω, ±1%, 100mW, 75V, ±200ppm/℃, -55℃~+155℃, SMD 0603; Manufacturer: Uniroyal; Manufacturer Part Number: 0603WAF1000T5E; Supplier 1: LCSC; Supplier Part Number 1: C22775; JLCPCB Part Number: C22775; Power Rating: 100mW; Category: Resistors; Package Size: 0603; JLCPCB Basic Part: Yes; Tolerance: ±1%; Voltage Rating: 75V; Temperature Coefficient: ±200ppm/℃; Temperature Rating: -55℃~+155℃; ComponentLink1Description: Datasheet; ComponentLink1URL: https://wmsc.lcsc.com/wmsc/upload/file/pdf/v2/lcsc/2206010130_UNI-ROYAL-Uniroyal-Elec-0603WAF1000T5E_C22775.pdf; ComponentLink2Description: JLCPCB Part URL; ComponentLink2URL: https://jlcpcb.com/partdetail/C22775
footprint RES-0603 (0603 (1608M) Resistor)
pins: 1, 2
1 alternate drawing of the same symbol

## 0603WAF1001T5E
designator R?  Resistance: 1kΩ  (hidden comment: *)
Resistor, 1kΩ, ±1%, 100mW, 75V, ±100ppm/℃, -55℃~+155℃, SMD 0603; Manufacturer: Uniroyal; Manufacturer Part Number: 0603WAF1001T5E; Supplier 1: LCSC; Supplier Part Number 1: C21190; JLCPCB Part Number: C21190; Power Rating: 100mW; Category: Resistors; Package Size: 0603; JLCPCB Basic Part: Yes; Tolerance: ±1%; Voltage Rating: 75V; Temperature Coefficient: ±100ppm/℃; Temperature Rating: -55℃~+155℃; ComponentLink1Description: Datasheet; ComponentLink1URL: https://wmsc.lcsc.com/wmsc/upload/file/pdf/v2/lcsc/2206010130_UNI-ROYAL-Uniroyal-Elec-0603WAF1001T5E_C21190.pdf; ComponentLink2Description: JLCPCB Part URL; ComponentLink2URL: https://jlcpcb.com/partdetail/C21190
footprint RES-0603 (0603 (1608M) Resistor)
pins: 1, 2
1 alternate drawing of the same symbol

## 0603WAF1002T5E
designator R?  Resistance: 10kΩ  (hidden comment: *)
Resistor, 10kΩ, ±1%, 100mW, 75V, ±100ppm/℃, -55℃~+155℃, SMD 0603; Manufacturer: Uniroyal; Manufacturer Part Number: 0603WAF1002T5E; Supplier 1: LCSC; Supplier Part Number 1: C25804; JLCPCB Part Number: C25804; Power Rating: 100mW; Category: Resistors; Package Size: 0603; JLCPCB Basic Part: Yes; Tolerance: ±1%; Voltage Rating: 75V; Temperature Coefficient: ±100ppm/℃; Temperature Rating: -55℃~+155℃; ComponentLink1Description: Datasheet; ComponentLink1URL: https://wmsc.lcsc.com/wmsc/upload/file/pdf/v2/lcsc/2206010045_UNI-ROYAL-Uniroyal-Elec-0603WAF1002T5E_C25804.pdf; ComponentLink2Description: JLCPCB Part URL; ComponentLink2URL: https://jlcpcb.com/partdetail/C25804
footprint RES-0603 (0603 (1608M) Resistor)
pins: 1, 2
1 alternate drawing of the same symbol

## 0603WAF1003T5E
designator R?  Resistance: 100kΩ  (hidden comment: *)
Resistor, 100kΩ, ±1%, 100mW, 75V, ±100ppm/℃, -55℃~+155℃, SMD 0603; Manufacturer: Uniroyal; Manufacturer Part Number: 0603WAF1003T5E; Supplier 1: LCSC; Supplier Part Number 1: C25803; JLCPCB Part Number: C25803; Power Rating: 100mW; Category: Resistors; Package Size: 0603; JLCPCB Basic Part: Yes; Tolerance: ±1%; Voltage Rating: 75V; Temperature Coefficient: ±100ppm/℃; Temperature Rating: -55℃~+155℃; ComponentLink1Description: Datasheet; ComponentLink1URL: https://wmsc.lcsc.com/wmsc/upload/file/pdf/v2/lcsc/2206010045_UNI-ROYAL-Uniroyal-Elec-0603WAF1003T5E_C25803.pdf; ComponentLink2Description: JLCPCB Part URL; ComponentLink2URL: https://jlcpcb.com/partdetail/C25803
footprint RES-0603 (0603 (1608M) Resistor)
pins: 1, 2
1 alternate drawing of the same symbol

## 0603WAF1004T5E
designator R?  Resistance: 1MΩ  (hidden comment: *)
Resistor, 1MΩ, ±1%, 100mW, 75V, ±100ppm/℃, -55℃~+155℃, SMD 0603; Manufacturer: Uniroyal; Manufacturer Part Number: 0603WAF1004T5E; Supplier 1: LCSC; Supplier Part Number 1: C22935; JLCPCB Part Number: C22935; Power Rating: 100mW; Category: Resistors; Package Size: 0603; JLCPCB Basic Part: Yes; Tolerance: ±1%; Voltage Rating: 75V; Temperature Coefficient: ±100ppm/℃; Temperature Rating: -55℃~+155℃; ComponentLink1Description: Datasheet; ComponentLink1URL: https://wmsc.lcsc.com/wmsc/upload/file/pdf/v2/lcsc/2206010130_UNI-ROYAL-Uniroyal-Elec-0603WAF1004T5E_C22935.pdf; ComponentLink2Description: JLCPCB Part URL; ComponentLink2URL: https://jlcpcb.com/partdetail/C22935
footprint RES-0603 (0603 (1608M) Resistor)
pins: 1, 2
1 alternate drawing of the same symbol

## 0603WAF1005T5E
designator R?  Resistance: 10MΩ  (hidden comment: *)
Resistor, 10MΩ, ±1%, 100mW, 75V, ±100ppm/℃, -55℃~+155℃, SMD 0603; Manufacturer: Uniroyal; Manufacturer Part Number: 0603WAF1005T5E; Supplier 1: LCSC; Supplier Part Number 1: C7250; JLCPCB Part Number: C7250; Power Rating: 100mW; Category: Resistors; Package Size: 0603; JLCPCB Basic Part: Yes; Tolerance: ±1%; Voltage Rating: 75V; Temperature Coefficient: ±100ppm/℃; Temperature Rating: -55℃~+155℃; ComponentLink1Description: Datasheet; ComponentLink1URL: https://wmsc.lcsc.com/wmsc/upload/file/pdf/v2/lcsc/2206010216_UNI-ROYAL-Uniroyal-Elec-0603WAF1005T5E_C7250.pdf; ComponentLink2Description: JLCPCB Part URL; ComponentLink2URL: https://jlcpcb.com/partdetail/C7250
footprint RES-0603 (0603 (1608M) Resistor)
pins: 1, 2
1 alternate drawing of the same symbol

## 0603WAF1200T5E
designator R?  Resistance: 120Ω  (hidden comment: *)
Resistor, 120Ω, ±1%, 100mW, 75V, ±100ppm/℃, -55℃~+155℃, SMD 0603; Manufacturer: Uniroyal; Manufacturer Part Number: 0603WAF1200T5E; Supplier 1: LCSC; Supplier Part Number 1: C22787; JLCPCB Part Number: C22787; Power Rating: 100mW; Category: Resistors; Package Size: 0603; JLCPCB Basic Part: Yes; Tolerance: ±1%; Voltage Rating: 75V; Temperature Coefficient: ±100ppm/℃; Temperature Rating: -55℃~+155℃; ComponentLink1Description: Datasheet; ComponentLink1URL: https://wmsc.lcsc.com/wmsc/upload/file/pdf/v2/lcsc/2206010130_UNI-ROYAL-Uniroyal-Elec-0603WAF1200T5E_C22787.pdf; ComponentLink2Description: JLCPCB Part URL; ComponentLink2URL: https://jlcpcb.com/partdetail/C22787
footprint RES-0603 (0603 (1608M) Resistor)
pins: 1, 2
1 alternate drawing of the same symbol

## 0603WAF1201T5E
designator R?  Resistance: 1.2kΩ  (hidden comment: *)
Resistor, 1.2kΩ, ±1%, 100mW, 75V, ±100ppm/℃, -55℃~+155℃, SMD 0603; Manufacturer: Uniroyal; Manufacturer Part Number: 0603WAF1201T5E; Supplier 1: LCSC; Supplier Part Number 1: C22765; JLCPCB Part Number: C22765; Power Rating: 100mW; Category: Resistors; Package Size: 0603; JLCPCB Basic Part: Yes; Tolerance: ±1%; Voltage Rating: 75V; Temperature Coefficient: ±100ppm/℃; Temperature Rating: -55℃~+155℃; ComponentLink1Description: Datasheet; ComponentLink1URL: https://wmsc.lcsc.com/wmsc/upload/file/pdf/v2/lcsc/2206010130_UNI-ROYAL-Uniroyal-Elec-0603WAF1201T5E_C22765.pdf; ComponentLink2Description: JLCPCB Part URL; ComponentLink2URL: https://jlcpcb.com/partdetail/C22765
footprint RES-0603 (0603 (1608M) Resistor)
pins: 1, 2
1 alternate drawing of the same symbol

## 0603WAF1202T5E
designator R?  Resistance: 12kΩ  (hidden comment: *)
Resistor, 12kΩ, ±1%, 100mW, 75V, ±100ppm/℃, -55℃~+155℃, SMD 0603; Manufacturer: Uniroyal; Manufacturer Part Number: 0603WAF1202T5E; Supplier 1: LCSC; Supplier Part Number 1: C22790; JLCPCB Part Number: C22790; Power Rating: 100mW; Category: Resistors; Package Size: 0603; JLCPCB Basic Part: Yes; Tolerance: ±1%; Voltage Rating: 75V; Temperature Coefficient: ±100ppm/℃; Temperature Rating: -55℃~+155℃; ComponentLink1Description: Datasheet; ComponentLink1URL: https://wmsc.lcsc.com/wmsc/upload/file/pdf/v2/lcsc/2206010130_UNI-ROYAL-Uniroyal-Elec-0603WAF1202T5E_C22790.pdf; ComponentLink2Description: JLCPCB Part URL; ComponentLink2URL: https://jlcpcb.com/partdetail/C22790
footprint RES-0603 (0603 (1608M) Resistor)
pins: 1, 2
1 alternate drawing of the same symbol

## 0603WAF1203T5E
designator R?  Resistance: 120kΩ  (hidden comment: *)
Resistor, 120kΩ, ±1%, 100mW, 75V, ±100ppm/℃, -55℃~+155℃, SMD 0603; Manufacturer: Uniroyal; Manufacturer Part Number: 0603WAF1203T5E; Supplier 1: LCSC; Supplier Part Number 1: C25808; JLCPCB Part Number: C25808; Power Rating: 100mW; Category: Resistors; Package Size: 0603; JLCPCB Basic Part: Yes; Tolerance: ±1%; Voltage Rating: 75V; Temperature Coefficient: ±100ppm/℃; Temperature Rating: -55℃~+155℃; ComponentLink1Description: Datasheet; ComponentLink1URL: https://wmsc.lcsc.com/wmsc/upload/file/pdf/v2/lcsc/2206010045_UNI-ROYAL-Uniroyal-Elec-0603WAF1203T5E_C25808.pdf; ComponentLink2Description: JLCPCB Part URL; ComponentLink2URL: https://jlcpcb.com/partdetail/C25808
footprint RES-0603 (0603 (1608M) Resistor)
pins: 1, 2
1 alternate drawing of the same symbol

## 0603WAF1302T5E
designator R?  Resistance: 13kΩ  (hidden comment: *)
Resistor, 13kΩ, ±1%, 100mW, 75V, ±100ppm/℃, -55℃~+155℃, SMD 0603; Manufacturer: Uniroyal; Manufacturer Part Number: 0603WAF1302T5E; Supplier 1: LCSC; Supplier Part Number 1: C22797; JLCPCB Part Number: C22797; Power Rating: 100mW; Category: Resistors; Package Size: 0603; JLCPCB Basic Part: Yes; Tolerance: ±1%; Voltage Rating: 75V; Temperature Coefficient: ±100ppm/℃; Temperature Rating: -55℃~+155℃; ComponentLink1Description: Datasheet; ComponentLink1URL: https://wmsc.lcsc.com/wmsc/upload/file/pdf/v2/lcsc/2206010130_UNI-ROYAL-Uniroyal-Elec-0603WAF1302T5E_C22797.pdf; ComponentLink2Description: JLCPCB Part URL; ComponentLink2URL: https://jlcpcb.com/partdetail/C22797
footprint RES-0603 (0603 (1608M) Resistor)
pins: 1, 2
1 alternate drawing of the same symbol

## 0603WAF1500T5E
designator R?  Resistance: 150Ω  (hidden comment: *)
Resistor, 150Ω, ±1%, 100mW, 75V, ±100ppm/℃, -55℃~+155℃, SMD 0603; Manufacturer: Uniroyal; Manufacturer Part Number: 0603WAF1500T5E; Supplier 1: LCSC; Supplier Part Number 1: C22808; JLCPCB Part Number: C22808; Power Rating: 100mW; Category: Resistors; Package Size: 0603; JLCPCB Basic Part: Yes; Tolerance: ±1%; Voltage Rating: 75V; Temperature Coefficient: ±100ppm/℃; Temperature Rating: -55℃~+155℃; ComponentLink1Description: Datasheet; ComponentLink1URL: https://wmsc.lcsc.com/wmsc/upload/file/pdf/v2/lcsc/2206010130_UNI-ROYAL-Uniroyal-Elec-0603WAF1500T5E_C22808.pdf; ComponentLink2Description: JLCPCB Part URL; ComponentLink2URL: https://jlcpcb.com/partdetail/C22808
footprint RES-0603 (0603 (1608M) Resistor)
pins: 1, 2
1 alternate drawing of the same symbol

## 0603WAF1501T5E
designator R?  Resistance: 1.5kΩ  (hidden comment: *)
Resistor, 1.5kΩ, ±1%, 100mW, 75V, ±100ppm/℃, -55℃~+155℃, SMD 0603; Manufacturer: Uniroyal; Manufacturer Part Number: 0603WAF1501T5E; Supplier 1: LCSC; Supplier Part Number 1: C22843; JLCPCB Part Number: C22843; Power Rating: 100mW; Category: Resistors; Package Size: 0603; JLCPCB Basic Part: Yes; Tolerance: ±1%; Voltage Rating: 75V; Temperature Coefficient: ±100ppm/℃; Temperature Rating: -55℃~+155℃; ComponentLink1Description: Datasheet; ComponentLink1URL: https://wmsc.lcsc.com/wmsc/upload/file/pdf/v2/lcsc/2206010130_UNI-ROYAL-Uniroyal-Elec-0603WAF1501T5E_C22843.pdf; ComponentLink2Description: JLCPCB Part URL; ComponentLink2URL: https://jlcpcb.com/partdetail/C22843
footprint RES-0603 (0603 (1608M) Resistor)
pins: 1, 2
1 alternate drawing of the same symbol

## 0603WAF1502T5E
designator R?  Resistance: 15kΩ  (hidden comment: *)
Resistor, 15kΩ, ±1%, 100mW, 75V, ±100ppm/℃, -55℃~+155℃, SMD 0603; Manufacturer: Uniroyal; Manufacturer Part Number: 0603WAF1502T5E; Supplier 1: LCSC; Supplier Part Number 1: C22809; JLCPCB Part Number: C22809; Power Rating: 100mW; Category: Resistors; Package Size: 0603; JLCPCB Basic Part: Yes; Tolerance: ±1%; Voltage Rating: 75V; Temperature Coefficient: ±100ppm/℃; Temperature Rating: -55℃~+155℃; ComponentLink1Description: Datasheet; ComponentLink1URL: https://wmsc.lcsc.com/wmsc/upload/file/pdf/v2/lcsc/2206010130_UNI-ROYAL-Uniroyal-Elec-0603WAF1502T5E_C22809.pdf; ComponentLink2Description: JLCPCB Part URL; ComponentLink2URL: https://jlcpcb.com/partdetail/C22809
footprint RES-0603 (0603 (1608M) Resistor)
pins: 1, 2
1 alternate drawing of the same symbol

## 0603WAF1503T5E
designator R?  Resistance: 150kΩ  (hidden comment: *)
Resistor, 150kΩ, ±1%, 100mW, 75V, ±100ppm/℃, -55℃~+155℃, SMD 0603; Manufacturer: Uniroyal; Manufacturer Part Number: 0603WAF1503T5E; Supplier 1: LCSC; Supplier Part Number 1: C22807; JLCPCB Part Number: C22807; Power Rating: 100mW; Category: Resistors; Package Size: 0603; JLCPCB Basic Part: Yes; Tolerance: ±1%; Voltage Rating: 75V; Temperature Coefficient: ±100ppm/℃; Temperature Rating: -55℃~+155℃; ComponentLink1Description: Datasheet; ComponentLink1URL: https://wmsc.lcsc.com/wmsc/upload/file/pdf/v2/lcsc/2206010130_UNI-ROYAL-Uniroyal-Elec-0603WAF1503T5E_C22807.pdf; ComponentLink2Description: JLCPCB Part URL; ComponentLink2URL: https://jlcpcb.com/partdetail/C22807
footprint RES-0603 (0603 (1608M) Resistor)
pins: 1, 2
1 alternate drawing of the same symbol